# EAGLE library part USB-SMT (library wa7iut)
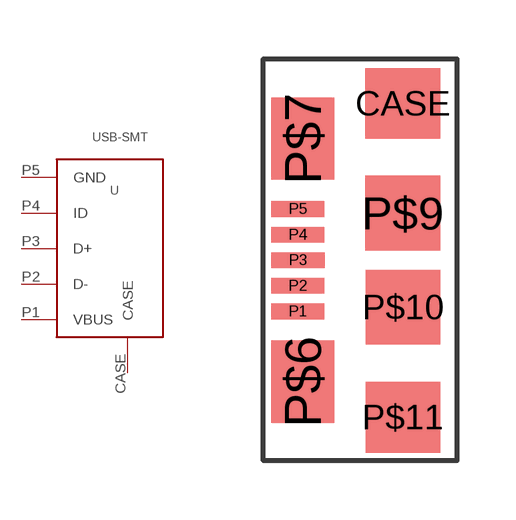
[diagram p3: symbol with the pads of USB-SMT; footprint USB-SMT]

Designator prefix -

## USB-SMT  [USB-SMT]
CASE  CASE
P1  VBUS
P2  D-
P3  D+
P4  ID
P5  GND

## Footprint USB-SMT (pad centres in mm)
smd 1.9 x 1.8: CASE -0.001,3.995; P$11 0,-4.002
smd 1.35 x 0.4: P1 -2.675,-1.305; P2 -2.678,-0.651; P3 -2.669,0.003; P4 -2.677,0.649; P5 -2.674,1.306
smd 1.6 x 2.1: P$6 -2.548,-3.095; P$7 -2.546,3.1
smd 1.9 x 1.9: P$9 -0.001,1.203; P$10 0.005,-1.198